# Altium footprint library Molex_2mm_14pin.PcbLib: 1 footprints
Each footprint in its own frame and in the unit in brackets; x right, y up, seen from the top. Pads: shape width x height; smd on the part's side, far side on the other; paste and mask are expansions set on the pad; w line width, h text height; cw(c..) or ccw(c..) is an arc to the next point about the centre after c.
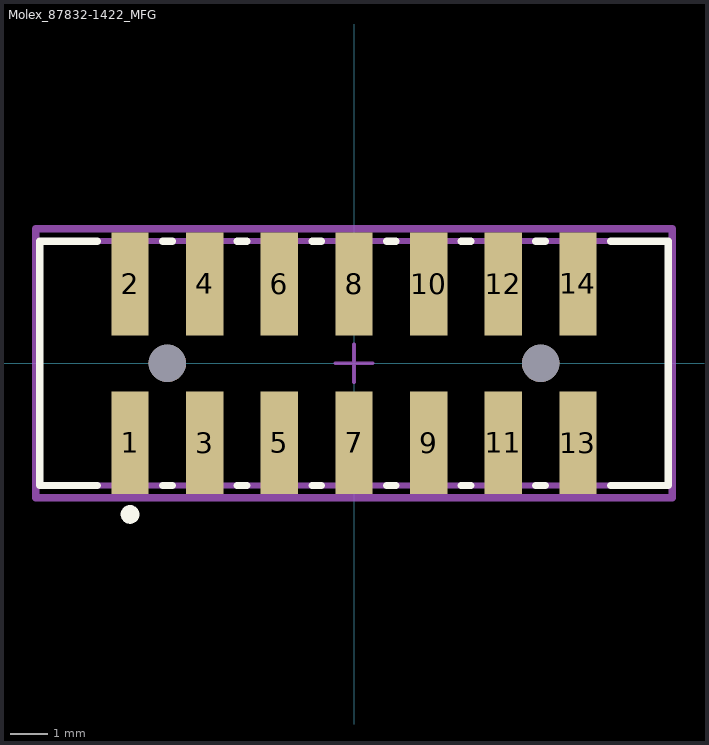
[diagram p0: the footprint, top view; thin cyan lines are the x and y axes]

## Molex_87832-1422_MFG [mm]
pads (16):
  rect 1x2.75 smd paste+0 mask+0: 1(-6,-2.125) 2(-6,2.125) 3(-4,-2.125) 4(-4,2.125) 5(-2,-2.125) 6(-2,2.125) 7(0,-2.125) 8(0,2.125) 9(2,-2.125) 10(2,2.125) 11(4,-2.125) 12(4,2.125) 13(6,-2.125) 14(6,2.125)
  round 1 hole 1 unplated paste-1000 mask+0: ""(-5,0) ""(5,0)
Top Overlay:
  circle w0.25: c-6,-4.05 r0.125
  lines w0.2: -6.875,-3.275 -8.425,-3.275 -8.425,3.275 -6.875,3.275 ; -5.125,-3.275 -4.875,-3.275 ; -5.125,3.275 -4.875,3.275 ; -3.125,-3.275 -2.875,-3.275 ; -3.125,3.275 -2.875,3.275 ; -1.125,-3.275 -0.875,-3.275 ; -1.125,3.275 -0.875,3.275 ; 0.875,-3.275 1.125,-3.275 ; 0.875,3.275 1.125,3.275 ; 2.875,-3.275 3.125,-3.275 ; 2.875,3.275 3.125,3.275 ; 4.875,-3.275 5.125,-3.275 ; 4.875,3.275 5.125,3.275 ; 6.875,-3.275 8.425,-3.275 8.425,3.275 6.875,3.275
Mechanical 10:
  lines w0.2: -8.525,-3.6 -8.525,3.6 8.525,3.6 8.525,-3.6 -8.525,-3.6
  text ".Designator" at 0,0 h1
Mechanical 12:
  lines w0.15: -8.425,-3.275 -8.425,3.275 8.425,3.275 8.425,-3.275 -8.425,-3.275
Mechanical 15:
  lines w0.1: -0.5,0 0.5,0 ; 0,-0.5 0,0.5
  lines w0.2: -8.525,-3.6 -8.525,3.6 8.525,3.6 8.525,-3.6 -8.525,-3.6
3D body "Conn_Molex_87832-1422_eec.STEP": height 0.25, standoff 0, extent -8.525,-3.6 8.525,3.6